# EAGLE library part RS232LEVELSHIFTER (library RS232 Level Shifter)
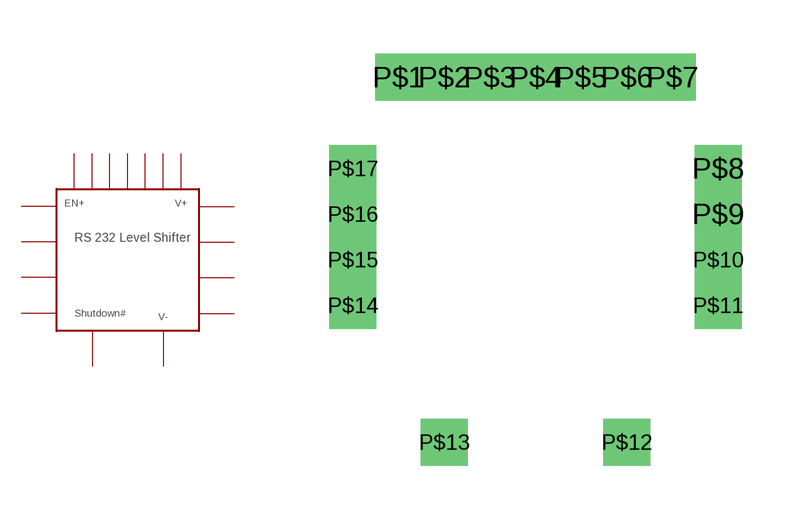
[diagram p0: symbol with the pads of RS232LEVELSHIFTER; footprint RS232LEVELSHIFTER]

Designator prefix -

## RS232LEVELSHIFTER  [RS232LEVELSHIFTER]
P$1  P$1
P$2  P$2
P$3  P$3
P$4  P$4
P$5  P$5
P$6  P$6
P$7  P$7
P$8  P$8
P$9  P$9
P$10  P$10
P$11  P$11
P$12  P$12
P$13  P$13
P$14  P$14
P$15  P$15
P$16  P$16
P$17  P$17

## Footprint RS232LEVELSHIFTER (pad centres in mm)
drill 0.8 square: P$1 -3.81,5.08; P$2 -2.54,5.08; P$3 -1.27,5.08; P$4 0,5.08; P$5 1.27,5.08; P$6 2.54,5.08; P$7 3.81,5.08; P$8 5.08,2.54; P$9 5.08,1.27; P$10 5.08,0; P$11 5.08,-1.27; P$12 2.54,-5.08; P$13 -2.54,-5.08; P$14 -5.08,-1.27; P$15 -5.08,0; P$16 -5.08,1.27; P$17 -5.08,2.54